# Altium footprint library HD2.PcbLib: 40 footprints (part 3 of 3)
Each footprint in its own frame and in the unit in brackets; x right, y up, seen from the top. Pads: shape width x height; smd on the part's side, far side on the other; paste and mask are expansions set on the pad; w line width, h text height; cw(c..) or ccw(c..) is an arc to the next point about the centre after c.
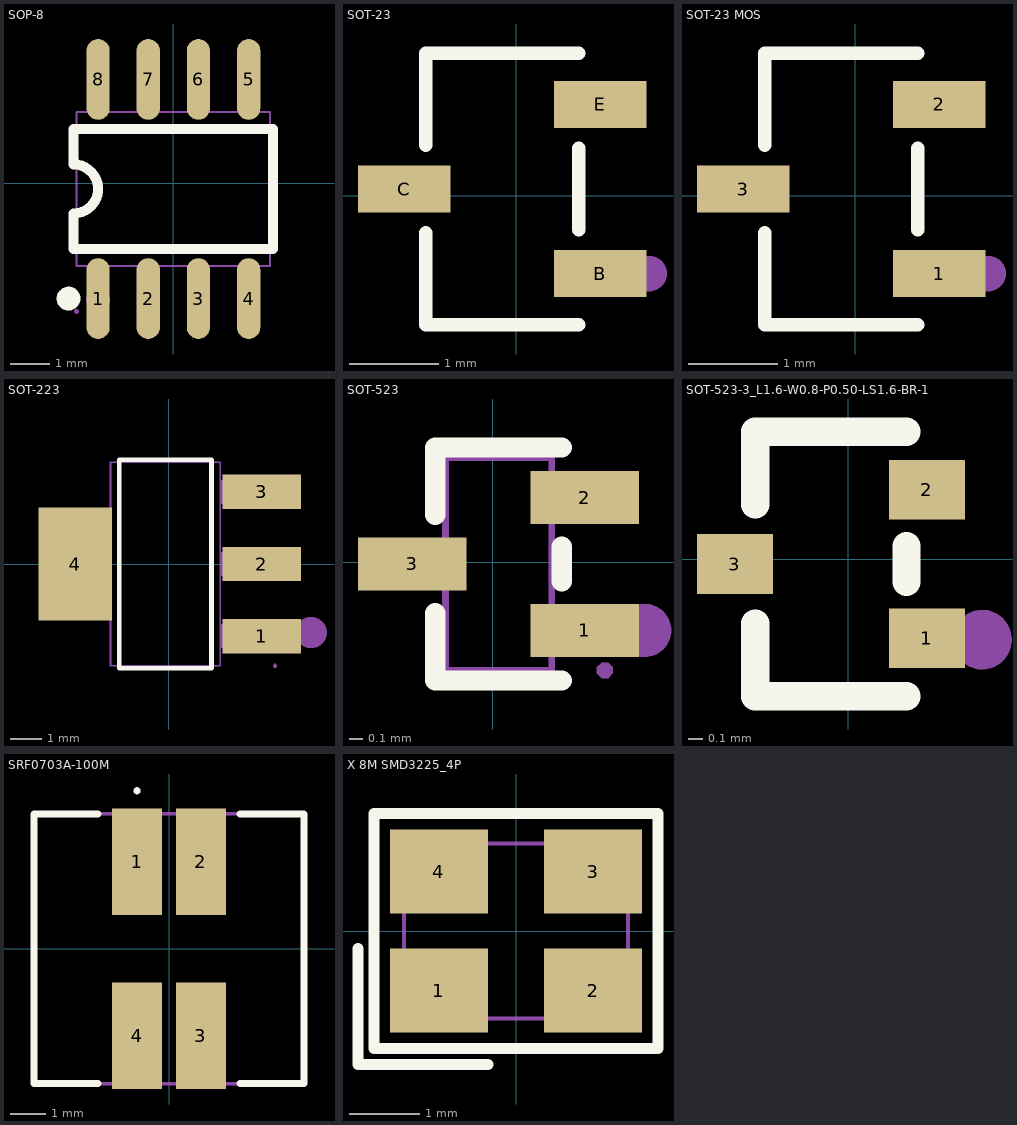
[diagram p2: the footprints below, top view; thin cyan lines are the x and y axes]

## SOP-8 [mm]
pads (8):
  oval 0.588x2.045 smd paste+0 mask+0.051: 1(-1.897,-2.914) 2(-0.627,-2.914) 3(0.643,-2.914) 4(1.913,-2.914) 5(1.913,2.63) 6(0.643,2.63) 7(-0.627,2.63) 8(-1.897,2.63)
Top Overlay:
  circle w0.3: c-2.644,-2.914 r0.15
  lines w0.254: -2.519,0.479 -2.519,1.379 -1.909,1.379 ; -2.519,0.48 cw(c-2.519,-0.142) -2.519,-0.763 -2.519,-1.663 -1.909,-1.663 ; -1.886,-1.663 -0.639,-1.663 ; -1.886,1.379 -0.639,1.379 ; -0.616,-1.663 0.631,-1.663 ; -0.616,1.379 0.631,1.379 ; 0.654,-1.663 1.901,-1.663 ; 0.654,1.379 1.901,1.379 ; 1.924,-1.663 2.534,-1.663 2.534,1.379 1.924,1.379
Mechanical 6:
  circle w0.3: c-1.897,-2.936 r0.15
Mechanical 15:
  region: -2.382,-3.242 -2.383,-3.218 -2.418,-3.183 -2.467,-3.183 -2.502,-3.218 -2.502,-3.242 -2.502,-3.267 -2.467,-3.301 -2.418,-3.301 -2.383,-3.267
  region: -2.097,-2.427 -2.097,-2.082 -1.697,-2.082 -1.697,-2.427
  region: -2.097,-3.242 -2.097,-2.417 -1.697,-2.417 -1.697,-3.242
  region: -0.827,-2.427 -0.827,-2.082 -0.427,-2.082 -0.427,-2.427
  region: -0.827,-3.242 -0.827,-2.417 -0.427,-2.417 -0.427,-3.242
  region: 0.443,-2.427 0.443,-2.082 0.843,-2.082 0.843,-2.427
  region: 0.443,-3.242 0.443,-2.417 0.843,-2.417 0.843,-3.242
  region: 1.713,-2.427 1.713,-2.082 2.113,-2.082 2.113,-2.427
  region: 1.713,-3.242 1.713,-2.417 2.113,-2.417 2.113,-3.242
  region: -2.097,1.798 -2.097,2.143 -1.697,2.143 -1.697,1.798
  region: -2.097,2.133 -2.097,2.958 -1.697,2.958 -1.697,2.133
  region: -0.827,1.798 -0.827,2.143 -0.427,2.143 -0.427,1.798
  region: -0.827,2.133 -0.827,2.958 -0.427,2.958 -0.427,2.133
  region: 0.443,1.798 0.443,2.143 0.843,2.143 0.843,1.798
  region: 0.443,2.133 0.443,2.958 0.843,2.958 0.843,2.133
  region: 1.713,1.798 1.713,2.143 2.113,2.143 2.113,1.798
  region: 1.713,2.133 1.713,2.958 2.113,2.958 2.113,2.133
  lines w0.051: -2.442,-2.092 -2.442,1.808 2.458,1.808 2.458,-2.092 -2.442,-2.092

## SOT-23 [mm]
pads (3):
  rect 1.037x0.532 smd paste+0 mask+0.051: B(0.943,-0.872) C(-1.259,0.078) E(0.943,1.028)
Top Overlay:
  lines w0.152: -1.017,-0.416 -1.017,-1.448 0.701,-1.448 ; -1.017,0.573 -1.017,1.605 0.701,1.605 ; 0.701,-0.377 0.701,0.534
Mechanical 15:
  circle w0.2: c1.492,-0.872 r0.1

## SOT-23 MOS [mm]
pads (3):
  rect 1.037x0.532 smd paste+0 mask+0.051: 1(0.943,-0.872) 2(0.943,1.028) 3(-1.259,0.078)
Top Overlay:
  lines w0.152: -1.017,-0.416 -1.017,-1.448 0.701,-1.448 ; -1.017,0.573 -1.017,1.605 0.701,1.605 ; 0.701,-0.377 0.701,0.534
Mechanical 15:
  circle w0.2: c1.492,-0.872 r0.1

## SOT-223 [mm]
pads (4):
  rect 2.5x1.1 smd paste+0 mask+0.051: 1(2.97,-2.3) 2(2.97,0) 3(2.97,2.3)
  rect 2.34x3.6 smd paste+0 mask+0.051: 4(-2.97,0)
Top Overlay:
  lines w0.152: -1.571,-3.326 1.371,-3.326 1.371,3.326 -1.571,3.326 -1.571,-3.326
Mechanical 6:
  circle w0.5: c4.552,-2.188 r0.25
Mechanical 15:
  region: -3.6,-1.5 -3.6,1.5 -2.85,1.5 -2.85,-1.5
  region: -2.86,-1.5 -2.86,1.5 -1.84,1.5 -1.84,-1.5
  region: 2.65,-2.675 2.65,-1.925 3.4,-1.925 3.4,-2.675
  region: 1.64,-2.675 1.64,-1.925 2.66,-1.925 2.66,-2.675
  region: 2.65,-0.375 2.65,0.375 3.4,0.375 3.4,-0.375
  region: 1.64,-0.375 1.64,0.375 2.66,0.375 2.66,-0.375
  region: 2.65,1.925 2.65,2.675 3.4,2.675 3.4,1.925
  region: 1.64,1.925 1.64,2.675 2.66,2.675 2.66,1.925
  region: 3.46,-3.25 3.46,-3.225 3.425,-3.19 3.375,-3.19 3.34,-3.225 3.34,-3.25 3.34,-3.275 3.375,-3.31 3.425,-3.31 3.46,-3.275
  lines w0.051: -1.85,-3.25 1.65,-3.25 1.65,3.25 -1.85,3.25 -1.85,-3.25

## SOT-523 [mm]
pads (3):
  rect 0.816x0.4 smd paste+0 mask+0.051: 1(0.692,-0.513) 2(0.692,0.487) 3(-0.608,-0.013)
Top Overlay:
  lines w0.152: -0.434,-0.381 -0.434,-0.889 0.518,-0.889 ; -0.434,0.356 -0.434,0.863 0.518,0.863 ; 0.518,-0.144 0.518,0.119
Mechanical 6:
  circle w0.2: c1.142,-0.513 r0.1
Mechanical 15:
  region: 0.902,-0.813 0.901,-0.788 0.866,-0.755 0.818,-0.755 0.783,-0.788 0.782,-0.813 0.783,-0.837 0.818,-0.871 0.866,-0.871 0.901,-0.837
  region: 0.482,-0.663 0.482,-0.363 0.842,-0.363 0.842,-0.663
  region: 0.432,-0.663 0.432,-0.363 0.492,-0.363 0.492,-0.663
  region: 0.482,0.337 0.482,0.637 0.842,0.637 0.842,0.337
  region: 0.432,0.337 0.432,0.637 0.492,0.637 0.492,0.337
  region: -0.398,-0.163 -0.398,0.137 -0.758,0.137 -0.758,-0.163
  region: -0.408,-0.163 -0.408,0.137 -0.348,0.137 -0.348,-0.163
  lines w0.051: -0.358,-0.813 -0.358,0.787 0.442,0.787 0.442,-0.813 -0.358,-0.813

## SOT-523-3_L1.6-W0.8-P0.50-LS1.6-BR-1 [mm]
pads (3):
  rect 0.51x0.4 smd paste+0 mask+0.05: 1(0.529,-0.532) 2(0.529,0.468) 3(-0.761,-0.032)
Top Overlay:
  lines w0.19: -0.624,-0.431 -0.624,-0.921 0.217,-0.921 0.392,-0.921 ; -0.624,0.367 -0.624,0.73 -0.624,0.857 0.392,0.857 ; 0.392,-0.153 0.392,0.089
Mechanical 15:
  circle w0.2: c0.9,-0.54 r0.1

## SRF0703A-100M [mm]
pads (4):
  rect 1.4x3 smd: 1(-0.9,2.45) 2(0.9,2.45) 3(0.9,-2.45) 4(-0.9,-2.45)
Top Overlay:
  lines w0.1: -0.9,4.4 ccw(c-0.9,4.45) -0.9,4.5 ccw(c-0.9,4.45) -0.9,4.4
  lines w0.2: -2,-3.8 -3.8,-3.8 -3.8,3.8 -2,3.8 ; 2,-3.8 3.8,-3.8 3.8,3.8 2,3.8
Mechanical 15:
  lines w0.1: -3.8,-3.8 3.8,-3.8 3.8,3.8 -3.8,3.8 -3.8,-3.8

## X 8M SMD3225_4P [mm]
pads (4):
  rect 1.4x1.2 smd: 1(-1.1,-0.85) 2(1.1,-0.85) 3(1.1,0.85) 4(-1.1,0.85)
Top Overlay:
  lines w0.152: -2.257,-0.25 -2.257,-1.907 -0.4,-1.907 ; -2.029,-1.678 2.029,-1.678 2.029,1.679 -2.029,1.679 -2.029,-1.678
Mechanical 6:
  circle w0.254: c-1.27,-0.889 r0.127
Mechanical 15:
  region: -1.5,-0.35 -0.6,-0.35 -0.6,-1.15 -1.5,-1.15
  region: 0.6,-0.35 1.5,-0.35 1.5,-1.15 0.6,-1.15
  region: 0.6,1.15 1.5,1.15 1.5,0.35 0.6,0.35
  region: -1.5,1.15 -0.6,1.15 -0.6,0.35 -1.5,0.35
  region: -1.54,-1.25 -1.54,-1.225 -1.575,-1.19 -1.625,-1.19 -1.66,-1.225 -1.66,-1.25 -1.66,-1.275 -1.625,-1.31 -1.575,-1.31 -1.54,-1.275
  lines w0.051: -1.6,-1.25 1.6,-1.25 1.6,1.25 -1.6,1.25 -1.6,-1.25